# Altium schematic symbol library 93Cx6.SchLib: 1 symbol
Pins are listed as number, name and electrical type; pins without a type are passive.

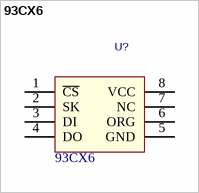
[diagram p0: symbol 93CX6]

## 93CX6
designator U?
Value: 93CX6
footprint SO-8_L (8-Pin Small Outline Integrated Circuit 1.27 mm Pitch, IPC High Density)
pins: 1 ~{CS}, 2 SK, 3 DI, 4 DO, 5 GND (power), 6 ORG, 7 NC, 8 VCC (power)